# Altium footprint library 0603_IND.PcbLib: 1 footprints
Each footprint in its own frame and in the unit in brackets; x right, y up, seen from the top. Pads: shape width x height; smd on the part's side, far side on the other; paste and mask are expansions set on the pad; w line width, h text height; cw(c..) or ccw(c..) is an arc to the next point about the centre after c.
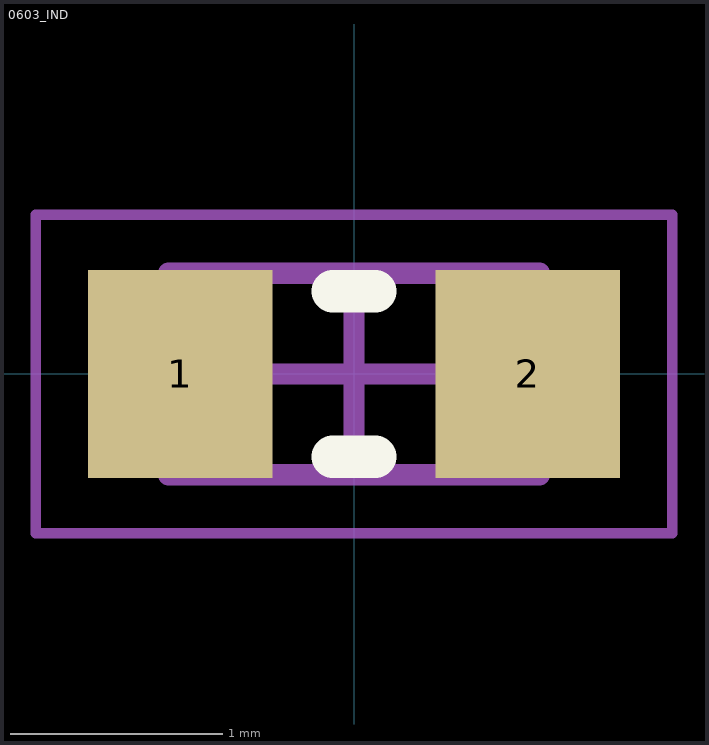
[diagram p0: the footprint, top view; thin cyan lines are the x and y axes]

## 0603_IND [mm]
height 0.95
pads (2):
  rect 0.87x0.98 smd: 1(-0.82,0) 2(0.82,0)
Top Overlay:
  lines w0.2: -0.1,-0.39 0.1,-0.39 ; -0.1,0.39 0.1,0.39
Mechanical 1:
  lines w0.1: -0.875,-0.475 0.875,-0.475 0.875,0.475 -0.875,0.475 -0.875,-0.475
  text ".Designator" at -0.764,-0.293 h0.65
Mechanical 2:
  lines w0.05: -1.5,-0.75 1.5,-0.75 1.5,0.75 -1.5,0.75 -1.5,-0.75
  lines w0.1: -0.475,0 0.475,0 ; 0,-0.475 0,0.475
3D body "0603_IND.step": height 0.95, standoff 0, extent -0.875,-0.475 0.875,0.475